# Altium footprint library THYRISTORS.PcbLib: 1 footprints
Each footprint in its own frame and in the unit in brackets; x right, y up, seen from the top. Pads: shape width x height; smd on the part's side, far side on the other; paste and mask are expansions set on the pad; w line width, h text height; cw(c..) or ccw(c..) is an arc to the next point about the centre after c.
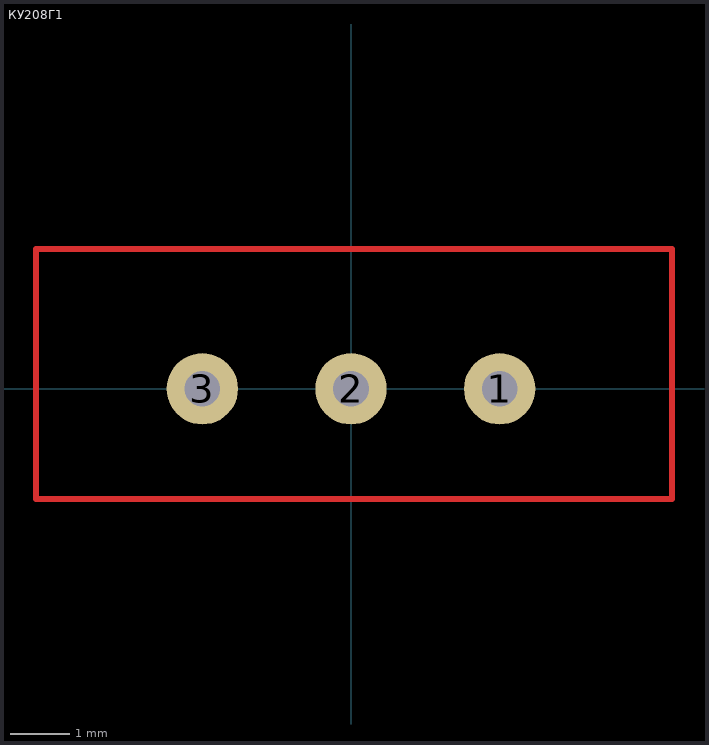
[diagram p0: the footprint, top view; thin cyan lines are the x and y axes]

## КУ208Г1 [mm]
pads (3):
  round 1.2 hole 0.6: 1(2.5,0) 2(0,0) 3(-2.5,0)
Top Layer:
  lines w0.1: 0,2.35 0.05,2.35 ; -5.3,-1.85 -5.3,2.35 5.4,2.35 5.4,-1.85 -5.3,-1.85